# Altium integrated library Library.IntLib: 629 symbols (part 1 of 21)
Pins are listed as number, name and electrical type; pins without a type are passive.

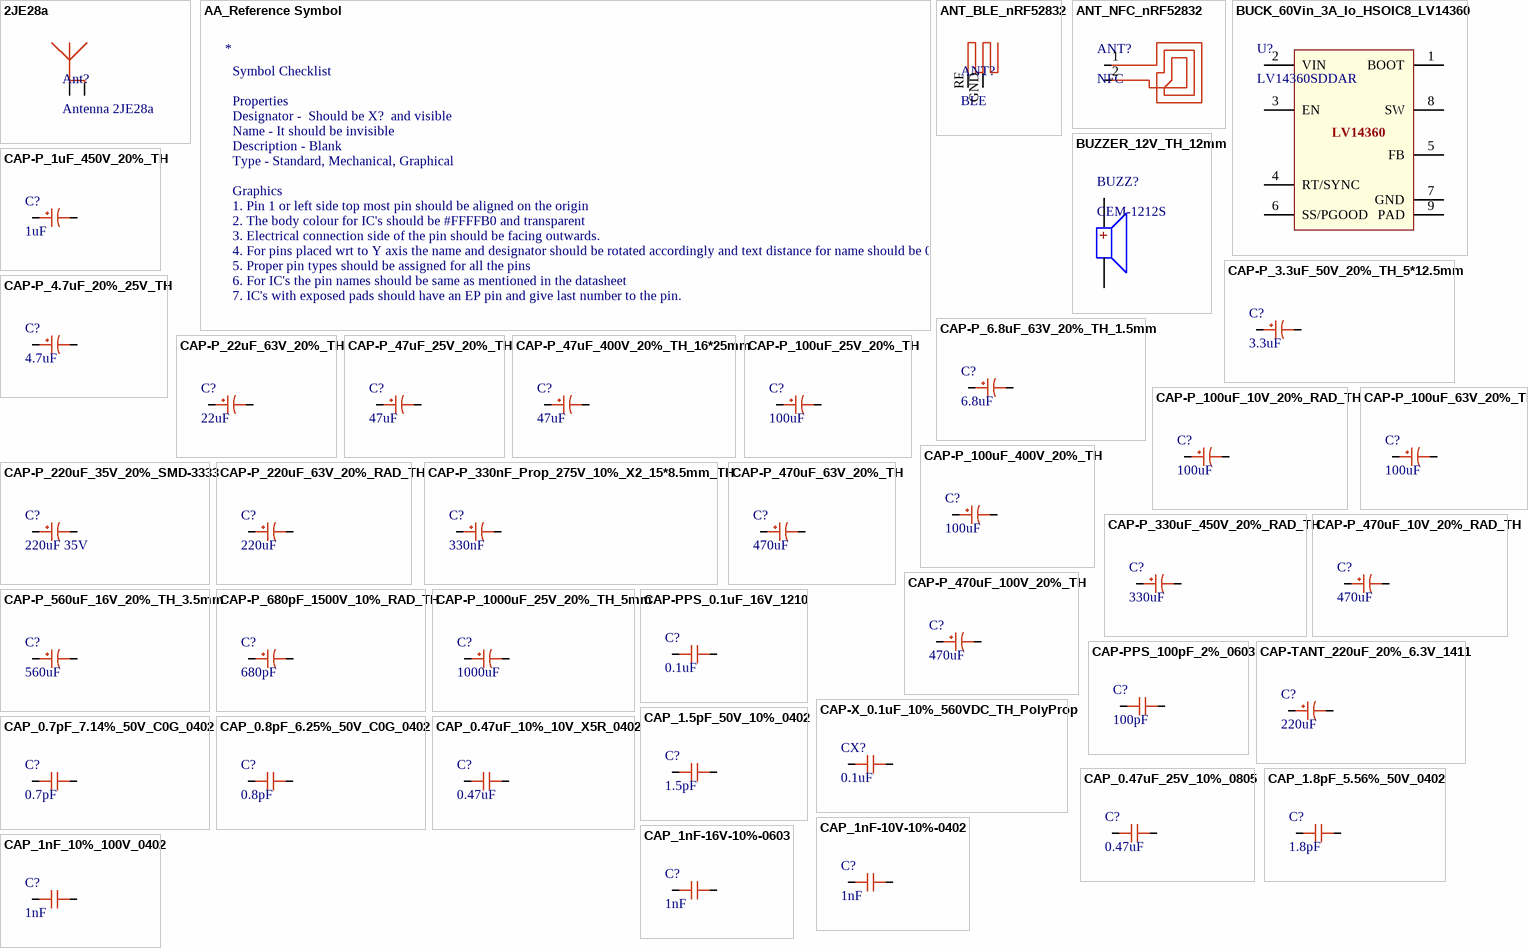
[diagram p0: symbols 2JE28a to CAP_1nF_10%_100V_0402]

## 2JE28a
designator Ant?, comment Antenna 2JE28a
CELLULAR / LTE Surface Mount Fiberglass Antenna 40x8x3mm; ComponentLink1Description: New link; ComponentLink1URL: https://www.2j-antennas.com/antennas/single-internal-antennas/2je28a-4g-lte-3g-2g-high-performance-compact-size-fiberglass-antenna/541
footprint 2JE28a (4G Surface Mount Antenna 40x8x3mm)
pins: 1, 2

## AA_Reference Symbol
designator *, comment Reference Symbol  (value not drawn)  (graphical)
Reference Checklist for Creating New Symbols
text: Symbol Checklist; Properties; Designator -  Should be X?  and visible; Name - It should be invisible; Description - Blank; Type - Standard, Mechanical, Graphical; Graphics; 1. Pin 1 or left side top most pin should be aligned on the origin; 2. The body colour for IC's should be #FFFFB0 and transparent; 3. Electrical connection side of the pin should be facing outwards.; 4. For pins placed wrt to Y axis the name and designator should be rotated accordingly and text distance for name should be 0mm; 5. Proper pin types should be assigned for all the pins; 6. For IC's the pin names should be same as mentioned in the datasheet; 7. IC's with exposed pads should have an EP pin and give last number to the pin.

## ANT_BLE_nRF52832
designator ANT?, comment BLE  (net tie, no BOM)
footprint ANT_BLE_2.4GHz
pins: GND, RF

## ANT_NFC_nRF52832
designator ANT?, comment NFC  (net tie, no BOM)
footprint AANI-CH-0030
pins: 1 22, 2 23

## BUCK_60Vin_3A_Io_HSOIC8_LV14360
designator U?, comment LV14360SDDAR
4.3-V to 60-V, 3-A, step down converter with 300-µA standby IQ and +/-0.53% Vref accuracy 8-SO PowerPAD -40 to 150; Manufacturer: Texas Instruments; Supplier: Mouser; Supplier Part Number: 595-LV14360SDDAR; Manufacturer Part Number: LV14360SDDAR; RoHS: Yes; Category: Voltage Regulators - Switching; Stock: 4336; Pricing: 1=2.94, 10=2.64, 50=2.64, 100=2.16, 1000=1.55, 10000=1.42 (USD); Supplier 1: Mouser; Supplier Part Number 1: 595-LV14360SDDAR; Supplier 2: Digikey; Supplier Part Number 2: 296-LV14360SDDARTR-ND
pins: 1 BOOT, 2 VIN, 3 EN, 4 RT/SYNC, 5 FB, 6 SS/PGOOD, 7 GND, 8 SW, 9 PAD
text: LV14360

## BUZZER_12V_TH_12mm
designator BUZZ?, comment CEM-1212S
12 mm, 12 V, 85 dB, Through Hole, Sealed, Magnetic Audio Transducer Buzzer; Manufacturer: Same Sky; Supplier: Digikey; Supplier Part Number: 102-1156-ND; Manufacturer Part Number: CEM-1212S; RoHS: No; Stock: 46451; Pricing: 1=0.75, 10=0.612, 25=0.5644, 50=0.5306, 100=0.4988, 250=0.45984, 500=0.43248, 1000=0.43125 (USD); ComponentLink1URL: https://www.cuidevices.com/product/resource/digikeypdf/cem-1212s.pdf?src-supplier=Digikey; ComponentLink1Description: https://www.cuidevices.com/product/resource/digikeypdf/cem-1212s.pdf?src-supplier=Digikey; ComponentLink2URL: https://datasheet.octopart.com/CEM-1212S-CUI-datasheet-154327548.pdf?src-supplier=Jameco; ComponentLink2Description: https://datasheet.octopart.com/CEM-1212S-CUI-datasheet-154327548.pdf?src-supplier=Jameco; ComponentLink3URL: https://datasheet.octopart.com/CEM-1212S-Same-Sky-datasheet-182048666.pdf?src-supplier=Future+Electronics; ComponentLink3Description: https://datasheet.octopart.com/CEM-1212S-Same-Sky-datasheet-182048666.pdf?src-supplier=Future+Electronics; ComponentLink4URL: https://datasheet.octopart.com/CEM-1212S-CUI-Devices-datasheet-175926679.pdf?src-supplier=Future+Electronics; ComponentLink4Description: https://datasheet.octopart.com/CEM-1212S-CUI-Devices-datasheet-175926679.pdf?src-supplier=Future+Electronics; ComponentLink5URL: https://datasheet.octopart.com/CEM-1212S-CUI-Devices-datasheet-103104170.pdf?src-supplier=Electro+Sonic; ComponentLink5Description: https://datasheet.octopart.com/CEM-1212S-CUI-Devices-datasheet-103104170.pdf?src-supplier=Electro+Sonic; ComponentLink6URL: https://datasheet.octopart.com/CEM-1212S-CUI-Devices-datasheet-175925308.pdf?src-supplier=Master+Electronics; ComponentLink6Description: https://datasheet.octopart.com/CEM-1212S-CUI-Devices-datasheet-175925308.pdf?src-supplier=Master+Electronics
footprint BUZZER_12mm_TH
pins: 1 +, 2 +

## CAP-P_1uF_450V_20%_TH
designator C?, comment 1uF
Aluminum Electrolytic Capacitor, Polarized, Aluminum (wet), 450V, 20% +Tol, 20% -Tol, 1uF, Through Hole Mount; Manufacturer: Rubycon; Manufacturer Part Number: 450PK1MEFC6.3X11; Dielectric Material: Aluminium; Ripple Current: 16mA; Supplier: Digikey; Supplier Part Number: 1189-1369-ND; RoHS: Yes; Category: Aluminum Electrolytic Capacitors; Stock: 23807; Pricing: 1=0.27, 10=0.166, 50=0.1208, 100=0.1063, 500=0.0811, 2000=0.06645, 4000=0.0609, 6000=0.05809 (USD); Pins: 2; Min Operating Temperature: -25°C; Max Operating Temperature: 85°C; Polarity: Polarized; Value: 1uF; Capacitor Type: Aluminium; Tolerance  (fill in as +-): 20%; Package Style: RadialMeter; Packaging: Bulk; Tolerance (fill in as +-): 20%; Rated DC Voltage (URdc): 450V; Series: PK; Diameter: 6.3mm; Length: 11mm; Terminal Pitch: 2.5mm; Reach SVHC Compliant: Yes; RoHS Compliant: Yes; ComponentLink1URL: https://datasheet.ciiva.com:443/pdfs/VipMasterIC/IC/RUBY/RUBYS00825/RUBYS00825-1.pdf?src-supplier=IHS+Markit; ComponentLink1Description: https://datasheet.ciiva.com:443/pdfs/VipMasterIC/IC/RUBY/RUBYS00825/RUBYS00825-1.pdf?src-supplier=IHS+Markit; ComponentLink2URL: https://datasheet.ciiva.com/25614/0900766b810f8819-25614364.pdf?src-supplier=Rs; ComponentLink2Description: https://datasheet.ciiva.com/25614/0900766b810f8819-25614364.pdf?src-supplier=Rs
pins: 1, 2

## CAP-P_3.3uF_50V_20%_TH_5*12.5mm
designator C?, comment 3.3uF
Aluminum Electrolytic Capacitor, Aluminum (wet); Manufacturer: Wurth Electronics; Manufacturer Part Number: 860020672007; Dielectric Material: Aluminium; Supplier: Farnell; Supplier Part Number: 4256997; RoHS: Yes; Category: Aluminum Electrolytic Capacitors; Stock: 1195; Pricing: 5=0.104, 50=0.0778, 250=0.0681, 500=0.0605, 1000=0.0573, 2000=0.0562 (EUR); Pins: 2; Capacitor Type: Aluminium; Reach SVHC Compliant: Yes; RoHS Compliant: Yes; ComponentLink1URL: https://datasheet.ciiva.com:443/pdfs/VipMasterIC/IC/MIDC/MIDC-S-A0000766074/MIDC-S-A0000766114-1.pdf?src-supplier=IHS+Markit; ComponentLink1Description: https://datasheet.ciiva.com:443/pdfs/VipMasterIC/IC/MIDC/MIDC-S-A0000766074/MIDC-S-A0000766114-1.pdf?src-supplier=IHS+Markit; ComponentLink2URL: http://www.farnell.com/datasheets/1879649.pdf?src-supplier=Farnell; ComponentLink2Description: http://www.farnell.com/datasheets/1879649.pdf?src-supplier=Farnell; ComponentLink3URL: http://katalog.we-online.de/pbs/datasheet/860020672007.pdf?src-supplier=Digikey; ComponentLink3Description: http://katalog.we-online.de/pbs/datasheet/860020672007.pdf?src-supplier=Digikey; ComponentLink4URL: http://www.farnell.com/datasheets/1879649.pdf?src-supplier=Element14; ComponentLink4Description: http://www.farnell.com/datasheets/1879649.pdf?src-supplier=Element14
footprint CAP_TH_2mm_H_5mm*12.5mm
pins: 1, 2

## CAP-P_4.7uF_20%_25V_TH
designator C?, comment 4.7uF
WCAP-ATG5 Aluminum Electrolytic Capacitors; Manufacturer: Wurth Electronics; Manufacturer Part Number: 860020472001; Supplier 1: Digi-Key; RoHS: Yes; Category: Aluminum Electrolytic Capacitors; Stock 1: 4025; Pricing 1: 1=0.1, 50=0.089, 100=0.078, 250=0.069, 500=0.06, 1000=0.058 (USD); ComponentLink1URL: http://www.farnell.com/datasheets/1958378.pdf?src-supplier=Farnell; ComponentLink1Description: http://www.farnell.com/datasheets/1958378.pdf?src-supplier=Farnell; ComponentLink2URL: http://www.farnell.com/datasheets/1958378.pdf?src-supplier=Element14; ComponentLink2Description: http://www.farnell.com/datasheets/1958378.pdf?src-supplier=Element14; ComponentLink3URL: http://katalog.we-online.de/pbs/datasheet/860020472001.pdf?src-supplier=Digi-Key; ComponentLink3Description: http://katalog.we-online.de/pbs/datasheet/860020472001.pdf?src-supplier=Digi-Key; ComponentLink4URL: https://katalog.we-online.de/pbs/datasheet/860020472001.pdf?src-supplier=Digi-Key; ComponentLink4Description: https://katalog.we-online.de/pbs/datasheet/860020472001.pdf?src-supplier=Digi-Key; Supplier Part Number 1: 732-8818-1-ND
footprint CAP_TH_2mm_1mm_hole
pins: 1, 2

## CAP-P_6.8uF_63V_20%_TH_1.5mm
designator C?, comment 6.8uF
Aluminum Electrolytic Capacitor, Polarized, Aluminum (wet), 63V, 20% +Tol, 20% -Tol, 6.8uF, Through Hole Mount; Manufacturer: Nichicon; Manufacturer Part Number: UPW1J6R8MDD6; Dielectric Material: Aluminium; Leakage Current: 12.852uA; Ripple Current: 24mA; Tan Delta: 0.09; Supplier: Newark; Supplier Part Number: 55K0315; RoHS: Yes; Category: Aluminum Electrolytic Capacitors; Mounting Technology: Through Hole; Pins: 2; Package Shape: Cylindrical; Terminal Finish: Copper; Min Operating Temperature: -55°C; Max Operating Temperature: 105°C; JESD-609 Code: e3; Polarity: Polarized; Value: 6.8uF; Capacitor Type: Aluminium; Tolerance  (fill in as +-): 20%; Package Style: RadialMeter; Packaging: Tape and Reel; Tolerance (fill in as +-): 20%; Rated DC Voltage (URdc): 63V; Termination: Wire; Diameter: 4mm; Length: 11mm; Terminal Pitch: 1.5mm; Reach SVHC Compliant: Yes; RoHS Compliant: Yes; ComponentLink1URL: https://datasheet.ciiva.com:443/pdfs/VipMasterIC/IC/NICH/NICH-S-A0009103853/NICH-S-A0009103853-1.pdf?src-supplier=IHS+Markit; ComponentLink1Description: https://datasheet.ciiva.com:443/pdfs/VipMasterIC/IC/NICH/NICH-S-A0009103853/NICH-S-A0009103853-1.pdf?src-supplier=IHS+Markit; ComponentLink2URL: https://datasheet.ciiva.com/14586/70187276-14586603.pdf?src-supplier=Allied+Electronics; ComponentLink2Description: https://datasheet.ciiva.com/14586/70187276-14586603.pdf?src-supplier=Allied+Electronics; ComponentLink3URL: https://datasheet.ciiva.com/97/e-pw-97625.pdf?src-supplier=Digikey; ComponentLink3Description: https://datasheet.ciiva.com/97/e-pw-97625.pdf?src-supplier=Digikey
pins: 1, 2

## CAP-P_22uF_63V_20%_TH
designator C?, comment 22uF
Alum. Electrolytic Cap 22µF 63V 6.3mm Radial WCAP-ATG8; Lifetime 2000h +85°C; Manufacturer: Wurth Electronics; Manufacturer Part Number: 860010773010; Supplier 1: Digi-Key; RoHS: Yes; Category: Aluminum Electrolytic Capacitors; Stock 1: 6207; Pricing 1: 1=0.14, 50=0.118, 100=0.103, 250=0.092, 500=0.08 (USD); ComponentLink1URL: http://www.farnell.com/datasheets/1879609.pdf?src-supplier=Farnell; ComponentLink1Description: http://www.farnell.com/datasheets/1879609.pdf?src-supplier=Farnell; ComponentLink2URL: http://www.farnell.com/datasheets/1879609.pdf?src-supplier=Element14; ComponentLink2Description: http://www.farnell.com/datasheets/1879609.pdf?src-supplier=Element14; ComponentLink3URL: http://katalog.we-online.de/pbs/datasheet/860010773010.pdf?src-supplier=Digi-Key; ComponentLink3Description: http://katalog.we-online.de/pbs/datasheet/860010773010.pdf?src-supplier=Digi-Key; ComponentLink4URL: https://katalog.we-online.de/pbs/datasheet/860010773010.pdf?src-supplier=Digi-Key; ComponentLink4Description: https://katalog.we-online.de/pbs/datasheet/860010773010.pdf?src-supplier=Digi-Key; Supplier Part Number 1: 732-8767-1-ND
footprint CAP_TH_2.5mm_1mm_hole
pins: 1, 2

## CAP-P_47uF_25V_20%_TH
designator C?, comment 47uF
WCAP-ATG5 Aluminum Electrolytic Capacitors; Manufacturer: Wurth Electronics; Manufacturer Part Number: 860020472006; Leakage Current: 11.75uA; Voltage Rating (DC): 25V; Pitch: 2mm; Supplier 1: Digi-Key; RoHS: Yes; Category: Aluminum Electrolytic Capacitors; Stock 1: 11188; Pricing 1: 1=0.1, 50=0.089, 100=0.078, 250=0.069, 500=0.06, 1000=0.058 (USD); Diameter: 5mm; Length: 11mm; Height: 11mm; ComponentLink1URL: http://www.farnell.com/datasheets/2031468.pdf?src-supplier=Farnell; ComponentLink1Description: http://www.farnell.com/datasheets/2031468.pdf?src-supplier=Farnell; ComponentLink2URL: http://katalog.we-online.de/pbs/datasheet/860020472006.pdf?src-supplier=Digi-Key; ComponentLink2Description: http://katalog.we-online.de/pbs/datasheet/860020472006.pdf?src-supplier=Digi-Key; ComponentLink3URL: https://katalog.we-online.de/pbs/datasheet/860020472006.pdf?src-supplier=Digi-Key; ComponentLink3Description: https://katalog.we-online.de/pbs/datasheet/860020472006.pdf?src-supplier=Digi-Key; ComponentLink4URL: http://www.farnell.com/datasheets/2031468.pdf?src-supplier=Newark; ComponentLink4Description: http://www.farnell.com/datasheets/2031468.pdf?src-supplier=Newark; Supplier Part Number 1: 732-8823-1-ND
footprint CAP_TH_2mm_1mm_hole
pins: 1, 2

## CAP-P_47uF_400V_20%_TH_16*25mm
designator C?, comment 47uF
Aluminum Electrolytic Capacitor, Polarized, Aluminum (wet), 400V, 20% +Tol, 20% -Tol, 47uF, Through Hole Mount; Manufacturer: Nichicon; Manufacturer Part Number: UVK2G470MHD; Dielectric Material: Aluminium; Ripple Current: 280mA; Leakage Current: 852uA; Tan Delta: 0.25; Supplier: Arrow Electronics; Supplier Part Number: UVK2G470MHD; RoHS: Yes; Category: Aluminum Electrolytic Capacitors; Stock: 200; Pricing: 200=0.7361 (USD); Mounting Technology: Through Hole; Pins: 2; Package Shape: Cylindrical; Terminal Finish: Copper; Min Operating Temperature: -40°C; Max Operating Temperature: 85°C; Polarity: Polarized; Value: 47uF; Capacitor Type: Aluminium; Tolerance  (fill in as +-): 20%; Package Style: RadialMeter; Packaging: Bulk; Tolerance (fill in as +-): 20%; Rated DC Voltage (URdc): 400V; JESD-609 Code: e3; Termination: Wire; Diameter: 16mm; Length: 25mm; Terminal Pitch: 7.5mm; Reach SVHC Compliant: No; RoHS Compliant: Yes; ComponentLink1URL: https://datasheet.ciiva.com:443/pdfs/VipMasterIC/IC/NICH/NICH-S-A0003527755/NICH-S-A0003527755-1.pdf?src-supplier=IHS+Markit; ComponentLink1Description: https://datasheet.ciiva.com:443/pdfs/VipMasterIC/IC/NICH/NICH-S-A0003527755/NICH-S-A0003527755-1.pdf?src-supplier=IHS+Markit; ComponentLink2URL: https://datasheet.ciiva.com/104/e-vk-104456.pdf?src-supplier=Digikey; ComponentLink2Description: https://datasheet.ciiva.com/104/e-vk-104456.pdf?src-supplier=Digikey; ComponentLink3URL: https://datasheet.ciiva.com/11685/e-vk-11685991.pdf?src-supplier=Avnet; ComponentLink3Description: https://datasheet.ciiva.com/11685/e-vk-11685991.pdf?src-supplier=Avnet; ComponentLink4URL: https://datasheet.ciiva.com/5341/e-vk-16658-5341081.pdf?src-supplier=Mouser; ComponentLink4Description: https://datasheet.ciiva.com/5341/e-vk-16658-5341081.pdf?src-supplier=Mouser
footprint CAP_TH_7.5mm_H_16mm*25mm
pins: 1, 2

## CAP-P_100uF_10V_20%_RAD_TH
designator C?, comment 100uF
100 µF 10 V Aluminum Electrolytic Capacitors Radial, Can 2000 Hrs @ 85°C; Manufacturer: Wurth Electronics; Manufacturer Part Number: 860010272005; Dielectric Material: Aluminium; Supplier: Digi-Key; Supplier Part Number: 732-8702-1-ND; RoHS: Yes; Category: Aluminum Electrolytic Capacitors; Stock: 1584; Pricing: 1=0.12, 50=0.1, 100=0.088, 250=0.078, 500=0.068, 1000=0.064 (USD); Pins: 2; Capacitor Type: Aluminium; Reach SVHC Compliant: Yes; RoHS Compliant: Yes; ComponentLink1URL: https://datasheet.ciiva.com:443/pdfs/VipMasterIC/IC/MIDC/MIDC-S-A0000764616/MIDC-S-A0000764141-1.pdf?src-supplier=IHS+Markit; ComponentLink1Description: https://datasheet.ciiva.com:443/pdfs/VipMasterIC/IC/MIDC/MIDC-S-A0000764616/MIDC-S-A0000764141-1.pdf?src-supplier=IHS+Markit; ComponentLink2URL: http://www.farnell.com/datasheets/1879452.pdf?src-supplier=Farnell; ComponentLink2Description: http://www.farnell.com/datasheets/1879452.pdf?src-supplier=Farnell; ComponentLink3URL: http://www.farnell.com/datasheets/1879452.pdf?src-supplier=Element14; ComponentLink3Description: http://www.farnell.com/datasheets/1879452.pdf?src-supplier=Element14; ComponentLink4URL: http://katalog.we-online.de/pbs/datasheet/860010272005.pdf?src-supplier=Digi-Key; ComponentLink4Description: http://katalog.we-online.de/pbs/datasheet/860010272005.pdf?src-supplier=Digi-Key; Supplier 1: Digi-Key; Supplier Part Number 1: 732-8702-1-ND
footprint CAP_TH_2mm_1mm_hole
pins: 1, 2

## CAP-P_100uF_25V_20%_TH
designator C?, comment 100uF
Alum. Electrolytic Cap 100µF 25V 6.3mm Radial WCAP-ATUL; Lifetime 5000h +105°C; Manufacturer: Wurth Electronics; Manufacturer Part Number: 860040473003; Supplier 1: Digi-Key; RoHS: Yes; Category: Aluminum Electrolytic Capacitors; Stock 1: 14595; Pricing 1: 1=0.18, 50=0.151, 100=0.132, 250=0.117, 500=0.102 (USD); ComponentLink1URL: http://www.farnell.com/datasheets/1958392.pdf?src-supplier=Farnell; ComponentLink1Description: http://www.farnell.com/datasheets/1958392.pdf?src-supplier=Farnell; ComponentLink2URL: http://www.produktinfo.conrad.com/datenblaetter/1200000-1299999/001281109-da-01-en-WCAP_ATUL_ALU_ELEC_CAPS_860040473003.pdf?src-supplier=Conrad; ComponentLink2Description: http://www.produktinfo.conrad.com/datenblaetter/1200000-1299999/001281109-da-01-en-WCAP_ATUL_ALU_ELEC_CAPS_860040473003.pdf?src-supplier=Conrad; ComponentLink3URL: http://katalog.we-online.de/pbs/datasheet/860040473003.pdf?src-supplier=Digi-Key; ComponentLink3Description: http://katalog.we-online.de/pbs/datasheet/860040473003.pdf?src-supplier=Digi-Key; ComponentLink4URL: https://katalog.we-online.de/pbs/datasheet/860040473003.pdf?src-supplier=Digi-Key; ComponentLink4Description: https://katalog.we-online.de/pbs/datasheet/860040473003.pdf?src-supplier=Digi-Key; ComponentLink5URL: http://www.farnell.com/datasheets/1958392.pdf?src-supplier=Element14; ComponentLink5Description: http://www.farnell.com/datasheets/1958392.pdf?src-supplier=Element14; Supplier Part Number 1: 732-9170-1-ND
footprint CAP_TH_2.5mm_1mm_hole
pins: 1, 2

## CAP-P_100uF_63V_20%_TH
designator C?, comment 100uF
Alum. Electrolytic Cap 100µF 63V 10mm Radial WCAP-ATG5; Lifetime 2000h +105°C; Manufacturer: Wurth Electronics; Manufacturer Part Number: 860020775015; Supplier 1: Digi-Key; RoHS: Yes; Category: Aluminum Electrolytic Capacitors; Stock 1: 2413; Pricing 1: 1=0.4, 50=0.344, 100=0.3, 250=0.267 (USD); ComponentLink1URL: http://www.farnell.com/datasheets/1879689.pdf?src-supplier=Farnell; ComponentLink1Description: http://www.farnell.com/datasheets/1879689.pdf?src-supplier=Farnell; ComponentLink2URL: http://www.produktinfo.conrad.com/datenblaetter/1200000-1299999/001280815-da-01-en-WCAP_ATG5_ALU_ELEC_CAPS_860020775015.pdf?src-supplier=Conrad; ComponentLink2Description: http://www.produktinfo.conrad.com/datenblaetter/1200000-1299999/001280815-da-01-en-WCAP_ATG5_ALU_ELEC_CAPS_860020775015.pdf?src-supplier=Conrad; ComponentLink3URL: http://katalog.we-online.de/pbs/datasheet/860020775015.pdf?src-supplier=Digi-Key; ComponentLink3Description: http://katalog.we-online.de/pbs/datasheet/860020775015.pdf?src-supplier=Digi-Key; ComponentLink4URL: https://katalog.we-online.de/pbs/datasheet/860020775015.pdf?src-supplier=Digi-Key; ComponentLink4Description: https://katalog.we-online.de/pbs/datasheet/860020775015.pdf?src-supplier=Digi-Key; ComponentLink5URL: http://www.farnell.com/datasheets/1879689.pdf?src-supplier=Element14; ComponentLink5Description: http://www.farnell.com/datasheets/1879689.pdf?src-supplier=Element14; Supplier Part Number 1: 732-8976-1-ND
footprint CAP_TH_5mm_1mm_hole
pins: 1, 2

## CAP-P_100uF_400V_20%_TH
designator C?, comment 100uF
Aluminum Electrolytic Capacitor, Polarized, Aluminum (wet), 400V, 20% +Tol, 20% -Tol, 100uF, Through Hole Mount; Manufacturer: United Chemi-Con; Manufacturer Part Number: EPAG401ELL101ML30S; Manufacturer Series: PAG; Dielectric Material: Aluminium; Leakage Current: 1.7mA; Ripple Current: 580mA; Tan Delta: 0.15; Supplier: Digikey; Supplier Part Number: 565-4246-ND; RoHS: Yes; Category: Aluminum Electrolytic Capacitors; Stock: 809; Pricing: 1=2.35, 10=1.55, 50=1.2184, 100=1.1138, 500=0.93372, 1000=0.87705, 2500=0.81662, 5000=0.77981, 10000=0.76076 (USD); Mounting Technology: Through Hole; Pins: 2; Package Shape: Cylindrical; Terminal Finish: Tin; Min Operating Temperature: -40°C; Max Operating Temperature: 105°C; JESD-609 Code: e3; Polarity: Polarized; Value: 100uF; Capacitor Type: Aluminium; Tolerance  (fill in as +-): 20%; Package Style: RadialMeter; Packaging: Bulk; Tolerance (fill in as +-): 20%; Rated DC Voltage (URdc): 400V; Series: PAG; Termination: Wire; Diameter: 16mm; Length: 30mm; Terminal Pitch: 7.5mm; Reach SVHC Compliant: Yes; RoHS Compliant: Yes; ComponentLink1URL: https://datasheet.ciiva.com:443/pdfs/VipMasterIC/IC/NIPC/NIPCS02498/NIPCS02498-1.pdf?src-supplier=IHS+Markit; ComponentLink1Description: https://datasheet.ciiva.com:443/pdfs/VipMasterIC/IC/NIPC/NIPCS02498/NIPCS02498-1.pdf?src-supplier=IHS+Markit; ComponentLink2URL: http://www.onlinecomponents.com/datasheet/epag401ell101ml30s.aspx?p=39080103&src-supplier=Onlinecomponents.com; ComponentLink2Description: http://www.onlinecomponents.com/datasheet/epag401ell101ml30s.aspx?p=39080103&src-supplier=Onlinecomponents.com; ComponentLink3URL: http://www.mouser.com/ds/2/420/al-pag-e-140701-514742.pdf?src-supplier=Mouser; ComponentLink3Description: http://www.mouser.com/ds/2/420/al-pag-e-140701-514742.pdf?src-supplier=Mouser; ComponentLink4URL: http://www.chemi-con.com/components/com_lcatalog/uploaded/5/6/4/16402269505171a450c9b97.pdf?src-supplier=Digikey; ComponentLink4Description: http://www.chemi-con.com/components/com_lcatalog/uploaded/5/6/4/16402269505171a450c9b97.pdf?src-supplier=Digikey; ComponentLink5URL: http://www.chemi-con.co.jp/cgi-bin/CAT_DB/SEARCH/cat_db_al.cgi?e=e&j=p&pdfname=pag&src-supplier=Digikey; ComponentLink5Description: http://www.chemi-con.co.jp/cgi-bin/CAT_DB/SEARCH/cat_db_al.cgi?e=e&j=p&pdfname=pag&src-supplier=Digikey; ComponentLink6URL: https://datasheet.octopart.com/EPAG401ELL101ML30S-United-Chemi-Con-datasheet-58829309.pdf?src-supplier=Future+Electronics; ComponentLink6Description: https://datasheet.octopart.com/EPAG401ELL101ML30S-United-Chemi-Con-datasheet-58829309.pdf?src-supplier=Future+Electronics; ComponentLink7URL: https://datasheet.octopart.com/EPAG401ELL101ML30S-United-Chemi-Con-datasheet-138241091.pdf?src-supplier=Master+Electronics; ComponentLink7Description: https://datasheet.octopart.com/EPAG401ELL101ML30S-United-Chemi-Con-datasheet-138241091.pdf?src-supplier=Master+Electronics
pins: 1, 2

## CAP-P_220uF_35V_20%_SMD-3333
designator C?, comment 220uF 35V
Aluminum Electrolytic Capacitor, Polarized, Aluminum (wet), 35V, 20% +Tol, 20% -Tol, 220uF, Surface Mount, 3333; Manufacturer: KEMET; Manufacturer Part Number: EEV227M035S9MAA; Capacitor Type: Aluminium; Supplier: Mouser; Supplier Part Number: 80-EEV227M035S9MAA; RoHS: Yes; Category: Aluminum Electrolytic Capacitors; Stock: 6171; Pricing: 1=0.64, 10=0.377, 50=0.377, 100=0.307, 1000=0.215, 10000=0.191 (USD); Pins: 2; RoHS Compliant: Yes; Reach SVHC Compliant: Yes; ComponentLink1URL: https://api.kemet.com/component-edge/download/datasheet/EEV227M035S9MAA.pdf?src-supplier=Digikey; ComponentLink1Description: https://api.kemet.com/component-edge/download/datasheet/EEV227M035S9MAA.pdf?src-supplier=Digikey
footprint CAP-RAD-SMD - 8mm
pins: 1, 2

## CAP-P_220uF_63V_20%_RAD_TH
designator C?, comment 220uF
Aluminum Electrolytic Capacitor, Aluminum (wet); Manufacturer: Wurth Electronics; Manufacturer Part Number: 860010775018; Dielectric Material: Aluminium; Supplier: Mouser; Supplier Part Number: 710-860010775018; RoHS: Yes; Category: Aluminum Electrolytic Capacitors; Stock: 1178; Pricing: 1=0.65, 10=0.646, 50=0.551, 100=0.481, 1000=0.372, 10000=0.356 (USD); Pins: 2; Capacitor Type: Aluminium; Reach SVHC Compliant: Yes; RoHS Compliant: Yes; ComponentLink1URL: https://datasheet.ciiva.com:443/pdfs/VipMasterIC/IC/MIDC/MIDC-S-A0000765238/MIDC-S-A0000765824-1.pdf?src-supplier=IHS+Markit; ComponentLink1Description: https://datasheet.ciiva.com:443/pdfs/VipMasterIC/IC/MIDC/MIDC-S-A0000765238/MIDC-S-A0000765824-1.pdf?src-supplier=IHS+Markit; ComponentLink2URL: http://www.farnell.com/datasheets/1879617.pdf?src-supplier=Farnell; ComponentLink2Description: http://www.farnell.com/datasheets/1879617.pdf?src-supplier=Farnell; ComponentLink3URL: http://katalog.we-online.de/pbs/datasheet/860010775018.pdf?src-supplier=Digikey; ComponentLink3Description: http://katalog.we-online.de/pbs/datasheet/860010775018.pdf?src-supplier=Digikey; ComponentLink4URL: https://katalog.we-online.de/pbs/datasheet/860010775018.pdf?src-supplier=Digikey; ComponentLink4Description: https://katalog.we-online.de/pbs/datasheet/860010775018.pdf?src-supplier=Digikey; ComponentLink5URL: http://www.farnell.com/datasheets/1879617.pdf?src-supplier=Element14; ComponentLink5Description: http://www.farnell.com/datasheets/1879617.pdf?src-supplier=Element14
footprint CAP_TH_5mm_1mm_hole
pins: 1, 2

## CAP-P_330nF_Prop_275V_10%_X2_15*8.5mm_TH
designator C?, comment 330nF
330 nF, ±10%, 275 VAC, Polypropylene Film, / X2, 15.00 mm x 8.50 mm; Manufacturer: Wurth Electronics; Manufacturer Part Number: 890324024003CS; Supplier: Farnell; Supplier Part Number: 2450007; RoHS: Yes; Category: Film Capacitors; Stock: 188; Pricing: 1=0.606, 50=0.462, 100=0.41, 250=0.359, 500=0.325, 1200=0.299 (EUR); Pins: 2; Capacitor Type: FILM; Reach SVHC Compliant: Yes; RoHS Compliant: Yes; ComponentLink1URL: https://datasheet.ciiva.com:443/pdfs/VipMasterIC/IC/MIDC/MIDC-S-A0001528209/MIDC-S-A0001527941-1.pdf?src-supplier=IHS+Markit; ComponentLink1Description: https://datasheet.ciiva.com:443/pdfs/VipMasterIC/IC/MIDC/MIDC-S-A0001528209/MIDC-S-A0001527941-1.pdf?src-supplier=IHS+Markit; ComponentLink2URL: https://datasheet.ciiva.com/46418/1854504-46418822.pdf?src-supplier=Element14; ComponentLink2Description: https://datasheet.ciiva.com/46418/1854504-46418822.pdf?src-supplier=Element14
pins: 1, 2

## CAP-P_330uF_450V_20%_RAD_TH
designator C?, comment 330uF
Aluminum Electrolytic Capacitor, Polarized, Aluminum (wet), 450V, 20% +Tol, 20% -Tol, 330uF; Manufacturer: United Chemi-Con; Manufacturer Part Number: ESMR451VSN331MR30S; Manufacturer Series: SMR; Dielectric Material: Aluminium; Ripple Current: 2.1A; Supplier: Digikey; Supplier Part Number: 565-4516-ND; RoHS: Yes; Category: Aluminum Electrolytic Capacitors; Stock: 1439; Pricing: 1=4.82, 10=4.148, 50=3.7618, 200=3.10585, 600=2.70073, 1000=2.50783, 2600=2.4596 (USD); Pins: 2; Terminal Finish: Tin; Min Operating Temperature: -25°C; Max Operating Temperature: 85°C; JESD-609 Code: e3; Polarity: Polarized; Value: 330uF; Capacitor Type: Aluminium; Tolerance  (fill in as +-): 20%; Package Style: Snap-inMeter; Tolerance (fill in as +-): 20%; Rated DC Voltage (URdc): 450V; Series: SMR; Diameter: 30mm; Length: 30mm; Terminal Pitch: 10mm; Reach SVHC Compliant: Yes; RoHS Compliant: Yes; ComponentLink1URL: https://datasheet.ciiva.com:443/pdfs/VipMasterIC/IC/NIPC/NIPC-S-A0009038875/NIPC-S-A0009038875-1.pdf?src-supplier=IHS+Markit; ComponentLink1Description: https://datasheet.ciiva.com:443/pdfs/VipMasterIC/IC/NIPC/NIPC-S-A0009038875/NIPC-S-A0009038875-1.pdf?src-supplier=IHS+Markit; ComponentLink2URL: http://www.chemi-con.co.jp/cgi-bin/CAT_DB/SEARCH/cat_db_al.cgi?e=e&amp;j=p&amp;pdfname=smrlug&src-supplier=Digikey; ComponentLink2Description: http://www.chemi-con.co.jp/cgi-bin/CAT_DB/SEARCH/cat_db_al.cgi?e=e&amp;j=p&amp;pdfname=smrlug&src-supplier=Digikey
footprint CAP_RAD_SNAPIN_10mm_
pins: 1, 2

## CAP-P_470uF_10V_20%_RAD_TH
designator C?, comment 470uF
Aluminum Electrolytic Capacitor, Aluminum (wet); Manufacturer: Wurth Electronics; Manufacturer Part Number: 860010273011; Dielectric Material: Aluminium; Supplier: Digi-Key; Supplier Part Number: 732-8708-1-ND; RoHS: Yes; Category: Aluminum Electrolytic Capacitors; Stock: 4181; Pricing: 1=0.17, 50=0.144, 100=0.126, 250=0.112, 500=0.098 (USD); Pins: 2; Capacitor Type: Aluminium; Reach SVHC Compliant: Yes; RoHS Compliant: Yes; ComponentLink1URL: https://datasheet.ciiva.com:443/pdfs/VipMasterIC/IC/MIDC/MIDC-S-A0000764616/MIDC-S-A0000765065-1.pdf?src-supplier=IHS+Markit; ComponentLink1Description: https://datasheet.ciiva.com:443/pdfs/VipMasterIC/IC/MIDC/MIDC-S-A0000764616/MIDC-S-A0000765065-1.pdf?src-supplier=IHS+Markit; ComponentLink2URL: http://www.farnell.com/datasheets/1879458.pdf?src-supplier=Farnell; ComponentLink2Description: http://www.farnell.com/datasheets/1879458.pdf?src-supplier=Farnell; ComponentLink3URL: http://www.farnell.com/datasheets/1879458.pdf?src-supplier=Element14; ComponentLink3Description: http://www.farnell.com/datasheets/1879458.pdf?src-supplier=Element14; ComponentLink4URL: http://katalog.we-online.de/pbs/datasheet/860010273011.pdf?src-supplier=Digi-Key; ComponentLink4Description: http://katalog.we-online.de/pbs/datasheet/860010273011.pdf?src-supplier=Digi-Key; ComponentLink5URL: https://katalog.we-online.de/pbs/datasheet/860010273011.pdf?src-supplier=Digi-Key; ComponentLink5Description: https://katalog.we-online.de/pbs/datasheet/860010273011.pdf?src-supplier=Digi-Key; Supplier 1: Digi-Key; Supplier Part Number 1: 732-8708-1-ND
pins: 1, 2

## CAP-P_470uF_63V_20%_TH
designator C?, comment 470uF
Aluminium Electrolytic Capacitor, Wcap-Atg8 Series, 470 F, 20%, 63 V, 13 Mm, Radial Leaded; Manufacturer: Wurth Electronics; Manufacturer Part Number: 860010778020; Supplier 1: Digi-Key; RoHS: Yes; Category: Aluminum Electrolytic Capacitors; Stock 1: 294; Pricing 1: 1=1.19, 50=1.01, 100=0.881 (USD); ComponentLink1URL: http://www.farnell.com/datasheets/1879619.pdf?src-supplier=Farnell; ComponentLink1Description: http://www.farnell.com/datasheets/1879619.pdf?src-supplier=Farnell; ComponentLink2URL: http://www.farnell.com/datasheets/1879619.pdf?src-supplier=Element14; ComponentLink2Description: http://www.farnell.com/datasheets/1879619.pdf?src-supplier=Element14; ComponentLink3URL: http://katalog.we-online.de/pbs/datasheet/860010778020.pdf?src-supplier=Digi-Key; ComponentLink3Description: http://katalog.we-online.de/pbs/datasheet/860010778020.pdf?src-supplier=Digi-Key; Supplier Part Number 1: 732-8777-1-ND
footprint CAP_TH_5mm_1mm_hole - duplicate
pins: 1, 2

## CAP-P_470uF_100V_20%_TH
designator C?, comment 470uF
Aluminum Electrolytic Capacitor, Polarized, Aluminum (wet), 100V, 20% +Tol, 20% -Tol, 470uF, Through Hole Mount; Manufacturer: Rubycon; Manufacturer Part Number: 100ZLH470MEFC16X31.5; Manufacturer Series: ZLH; Dielectric Material: Aluminium; Leakage Current: 470uA; Multilayer: Yes; Ripple Current: 1.32A; Tan Delta: 0.08; Temperature Characteristics Code: BX; Supplier: Digikey; Supplier Part Number: 1189-1712-ND; RoHS: Yes; Category: Aluminum Electrolytic Capacitors; Stock: 53339; Pricing: 1=1.76, 10=1.165, 50=0.915, 400=0.7161, 800=0.70275 (USD); Mounting Technology: Through Hole; Pins: 2; Package Shape: Cylindrical; Case/Package: 1812; Terminal Finish: Tin; Min Operating Temperature: -40°C; Max Operating Temperature: 105°C; JESD-609 Code: e3; Polarity: Polarized; Value: 470uF; Capacitor Type: Aluminium; Tolerance  (fill in as +-): 20%; Package Style: RadialMeter; Packaging: Bulk; Tolerance (fill in as +-): 20%; Rated DC Voltage (URdc): 100V; Termination: Wire; Diameter: 16mm; Length: 31.5mm; Terminal Pitch: 7.5mm; Reach SVHC Compliant: Yes; RoHS Compliant: Yes; ComponentLink1URL: https://datasheet.ciiva.com:443/pdfs/VipMasterIC/IC/RUBY/RUBYS01692/RUBYS01692-1.pdf?src-supplier=IHS+Markit; ComponentLink1Description: https://datasheet.ciiva.com:443/pdfs/VipMasterIC/IC/RUBY/RUBYS01692/RUBYS01692-1.pdf?src-supplier=IHS+Markit; ComponentLink2URL: https://datasheet.ciiva.com/22732/1910927-22732325.pdf?src-supplier=Element14; ComponentLink2Description: https://datasheet.ciiva.com/22732/1910927-22732325.pdf?src-supplier=Element14; ComponentLink3URL: https://datasheet.ciiva.com/6312/e-zlh-6312573.pdf?src-supplier=Digikey; ComponentLink3Description: https://datasheet.ciiva.com/6312/e-zlh-6312573.pdf?src-supplier=Digikey
pins: 1, 2

## CAP-P_560uF_16V_20%_TH_3.5mm
designator C?, comment 560uF
Aluminum Electrolytic Capacitor, Polarized, Aluminum (solid Polymer), 16V, 20% +Tol, 20% -Tol, 560uF, Through Hole Mount; Manufacturer: United Chemi-Con; Manufacturer Part Number: APSG160ELL561MHB5J; Dielectric Material: Aluminium; ESR (Equivalent Series Resistance): 8mR; Leakage Current: 1.792mA; Multilayer: No; Ripple Current: 610mA; Tan Delta: 0.12; Supplier: Digikey; Supplier Part Number: 565-APSG160ELL561MHB5J-ND; RoHS: Yes; Category: Polymer Capacitors; Stock: 1946; Pricing: 1=1.4, 10=0.904, 50=0.6956, 100=0.6297, 500=0.51608, 1000=0.48031, 3000=0.4356, 5000=0.41889 (USD); Mounting Technology: Through Hole; Pins: 2; Min Operating Temperature: -55°C; Max Operating Temperature: 105°C; Polarity: Polarized; Value: 560uF; Capacitor Type: Aluminium; Tolerance  (fill in as +-): 20%; Package Style: RadialMeter; Packaging: Bulk; Tolerance (fill in as +-): 20%; Rated DC Voltage (URdc): 16V; Termination: Wire; Diameter: 8mm; Length: 11.5mm; Terminal Pitch: 3.5mm; RoHS Compliant: Yes; Reach SVHC Compliant: Yes; ComponentLink1URL: https://datasheet.ciiva.com:443/pdfs/VipMasterIC/IC/NIPC/NIPC-S-A0004676502/NIPC-S-A0004676502-1.pdf?src-supplier=IHS+Markit; ComponentLink1Description: https://datasheet.ciiva.com:443/pdfs/VipMasterIC/IC/NIPC/NIPC-S-A0004676502/NIPC-S-A0004676502-1.pdf?src-supplier=IHS+Markit; ComponentLink2URL: http://www.chemi-con.co.jp/cgi-bin/CAT_DB/SEARCH/cat_db_al.cgi?e=e&j=p&pdfname=psg&src-supplier=Digikey; ComponentLink2Description: http://www.chemi-con.co.jp/cgi-bin/CAT_DB/SEARCH/cat_db_al.cgi?e=e&j=p&pdfname=psg&src-supplier=Digikey
pins: 1, 2

## CAP-P_680pF_1500V_10%_RAD_TH
designator C?, comment 680pF
CAP CER 680PF 1.5KV RADIAL; Manufacturer: Murata; Manufacturer Part Number: DE1B3RA681KA4BP01F; Supplier: Mouser; Supplier Part Number: 81-DE1B3RA681KA4BP1F; RoHS: Yes; Category: Ceramic Capacitors; Stock: 1014; Pricing: 1=0.48, 10=0.314, 50=0.314, 100=0.155, 1000=0.139, 10000=0.112 (USD)
pins: 1, 2

## CAP-P_1000uF_25V_20%_TH_5mm
designator C?, comment 1000uF
Aluminum Electrolytic Capacitor, Polarized, Aluminum (wet), 25V, 20% +Tol, 20% -Tol, 1000uF; Manufacturer: Rubycon; Manufacturer Part Number: 25PX1000MEFCT810X16; Manufacturer Series: PX; Dielectric Material: Aluminium; Value: 1mF; Ripple Current: 740mA; Supplier: Digikey; Supplier Part Number: 1189-1583-1-ND; RoHS: Yes; Category: Aluminum Electrolytic Capacitors; Stock: 62862; Pricing: 1=0.66, 10=0.413, 50=0.3088, 100=0.2757 (USD); Pins: 2; Min Operating Temperature: -55°C; Max Operating Temperature: 105°C; Polarity: Polarized; Capacitor Type: Aluminium; Tolerance  (fill in as +-): 20%; Package Style: RadialMeter; Packaging: Tape and Reel; Tolerance (fill in as +-): 20%; Rated DC Voltage (URdc): 25V; Series: PX; Diameter: 10mm; Length: 16mm; Terminal Pitch: 5mm; Reach SVHC Compliant: Yes; RoHS Compliant: Yes; ComponentLink1URL: https://datasheet.ciiva.com:443/pdfs/VipMasterIC/IC/RUBY/RUBY-S-A0001237875/RUBY-S-A0001237875-1.pdf?src-supplier=IHS+Markit; ComponentLink1Description: https://datasheet.ciiva.com:443/pdfs/VipMasterIC/IC/RUBY/RUBY-S-A0001237875/RUBY-S-A0001237875-1.pdf?src-supplier=IHS+Markit; ComponentLink2URL: https://datasheet.ciiva.com/6298/e-px-6298646.pdf?src-supplier=Digikey; ComponentLink2Description: https://datasheet.ciiva.com/6298/e-px-6298646.pdf?src-supplier=Digikey; ComponentLink3URL: https://datasheet.ciiva.com/6298/e-px-6298647.pdf?src-supplier=Digikey; ComponentLink3Description: https://datasheet.ciiva.com/6298/e-px-6298647.pdf?src-supplier=Digikey; ComponentLink4URL: https://datasheet.ciiva.com/22732/1909360-22732535.pdf?src-supplier=Element14; ComponentLink4Description: https://datasheet.ciiva.com/22732/1909360-22732535.pdf?src-supplier=Element14
footprint CAP_TH_5mm_1mm_hole
pins: 1, 2

## CAP-PPS_0.1uF_16V_1210
designator C?, comment 0.1uF
Film Capacitor, Polyphenylene Sulfide, 16V, 2% +Tol, 2% -Tol, 0.1uF, Surface Mount, 1310; Manufacturer: Panasonic; Manufacturer Part Number: ECH-U1C104GX5; Value: 100nF; Supplier: Mouser; Supplier Part Number: 667-ECH-U1C104GX5; RoHS: Yes; Category: Film Capacitors; Stock: 21421; Pricing: 1=0.92, 10=0.51, 50=0.51, 100=0.456, 1000=0.338, 10000=0.294 (USD); Mounting Technology: Surface Mount; Pins: 2; Package Shape: Rectangular; Terminal Finish: Copper; Dielectric Material: Polyphenylene; Case/Package: 1210; Min Operating Temperature: -55°C; Max Operating Temperature: 125°C; JESD-609 Code: e1; Package Style: SMTMeter; Capacitor Type: FILM; Tolerance  (fill in as +-): 2%; Packaging: Tape and Reel; Tolerance (fill in as +-): 2%; Rated DC Voltage (URdc): 16V; Termination: Wraparound; Length: 3.2mm; Width: 2.5mm; Height: 2.1mm; Reach SVHC Compliant: Yes; RoHS Compliant: Yes; ComponentLink1URL: https://datasheet.ciiva.com:443/pdfs/VipMasterIC/IC/PANA/PANA-S-A0009590914/PANA-S-A0009590914-1.pdf?src-supplier=IHS+Markit; ComponentLink1Description: https://datasheet.ciiva.com:443/pdfs/VipMasterIC/IC/PANA/PANA-S-A0009590914/PANA-S-A0009590914-1.pdf?src-supplier=IHS+Markit
footprint CAP_1210
pins: 1, 2

## CAP-PPS_100pF_2%_0603
designator C?, comment 100pF
Film Capacitor, Polyphenylene Sulfide, 16V, 2% +Tol, 2% -Tol, 0.0001uF, Surface Mount, 0603; Manufacturer: Panasonic; Manufacturer Part Number: ECH-U1C101GX5; Supplier: Mouser; Supplier Part Number: 667-ECH-U1C101GX5; RoHS: Yes; Category: Film Capacitors; Stock: 9885; Pricing: 1=0.5, 10=0.238, 50=0.238, 100=0.172, 1000=0.158, 10000=0.134 (USD); Mounting Technology: Surface Mount; Pins: 2; Dielectric Material: Polyphenylene; Package Shape: Rectangular; Case/Package: 0603; Terminal Finish: Copper; Min Operating Temperature: -55°C; Max Operating Temperature: 125°C; JESD-609 Code: e1; Value: 100pF; Capacitor Type: FILM; Tolerance  (fill in as +-): 2%; Package Style: SMTMeter; Packaging: Tape and Reel; Tolerance (fill in as +-): 2%; Rated DC Voltage (URdc): 16V; Termination: Wraparound; Length: 1.6mm; Width: 0.8mm; Height: 0.7mm; Reach SVHC Compliant: Yes; RoHS Compliant: Yes; ComponentLink1URL: https://datasheet.ciiva.com:443/pdfs/VipMasterIC/IC/PANA/PANA-S-A0009590914/PANA-S-A0009590914-1.pdf?src-supplier=IHS+Markit; ComponentLink1Description: https://datasheet.ciiva.com:443/pdfs/VipMasterIC/IC/PANA/PANA-S-A0009590914/PANA-S-A0009590914-1.pdf?src-supplier=IHS+Markit; ComponentLink2URL: https://datasheet.ciiva.com/11791/0900766b80eaa63b-11791104.pdf?src-supplier=Rs; ComponentLink2Description: https://datasheet.ciiva.com/11791/0900766b80eaa63b-11791104.pdf?src-supplier=Rs; ComponentLink3URL: https://datasheet.ciiva.com/43470/1719409-43470574.pdf?src-supplier=Farnell; ComponentLink3Description: https://datasheet.ciiva.com/43470/1719409-43470574.pdf?src-supplier=Farnell; ComponentLink4URL: https://datasheet.ciiva.com/46378/1719409-46378152.pdf?src-supplier=Element14; ComponentLink4Description: https://datasheet.ciiva.com/46378/1719409-46378152.pdf?src-supplier=Element14; ComponentLink5URL: https://datasheet.ciiva.com/2993/abd0000ce13-2993601.pdf?src-supplier=Avnet; ComponentLink5Description: https://datasheet.ciiva.com/2993/abd0000ce13-2993601.pdf?src-supplier=Avnet; ComponentLink6URL: https://datasheet.ciiva.com/2993/abd0000ce13-2993600.pdf?src-supplier=Avnet; ComponentLink6Description: https://datasheet.ciiva.com/2993/abd0000ce13-2993600.pdf?src-supplier=Avnet; ComponentLink7URL: https://datasheet.ciiva.com/31414/1719409-31414057.pdf?src-supplier=Farnell; ComponentLink7Description: https://datasheet.ciiva.com/31414/1719409-31414057.pdf?src-supplier=Farnell; ComponentLink8URL: https://datasheet.ciiva.com/46371/1719409-46371852.pdf?src-supplier=Element14; ComponentLink8Description: https://datasheet.ciiva.com/46371/1719409-46371852.pdf?src-supplier=Element14; ComponentLink9URL: https://datasheet.ciiva.com/14596/70067901-14596793.pdf?src-supplier=Allied+Electronics; ComponentLink9Description: https://datasheet.ciiva.com/14596/70067901-14596793.pdf?src-supplier=Allied+Electronics; ComponentLink10URL: https://datasheet.ciiva.com/16395/abd0000ce13-16395851.pdf?src-supplier=Future+Electronics; ComponentLink10Description: https://datasheet.ciiva.com/16395/abd0000ce13-16395851.pdf?src-supplier=Future+Electronics; ComponentLink11URL: https://datasheet.ciiva.com/30205/21abd0000ce13-30205002.pdf?src-supplier=Onlinecomponents.com; ComponentLink11Description: https://datasheet.ciiva.com/30205/21abd0000ce13-30205002.pdf?src-supplier=Onlinecomponents.com; ComponentLink12URL: https://datasheet.ciiva.com/15198/getdatasheetpartid-363235-15198203.pdf?src-supplier=Verical; ComponentLink12Description: https://datasheet.ciiva.com/15198/getdatasheetpartid-363235-15198203.pdf?src-supplier=Verical
footprint CAP_0603
pins: 1, 2

## CAP-TANT_220uF_20%_6.3V_1411
designator C?, comment 220uF
Tantalum Capacitor, Polarized, Tantalum (dry/solid), 6.3V, 20% +Tol, 20% -Tol, 220uF, Surface Mount, 1210; Manufacturer: Kyocera AVX; Manufacturer Part Number: F930J227MBA; ESR (Equivalent Series Resistance): 1.2R; Leakage Current: 13.9uA; Tan Delta: 0.3; Supplier: Avnet; Supplier Part Number: 82AC9103; RoHS: Yes; Category: Tantalum Capacitors; Stock: 663; Pricing: 1=0.77, 10=0.601, 30=0.561, 50=0.522, 100=0.486 (USD); Mounting Technology: Surface Mount; Pins: 2; Dielectric Material: Tantalum; Package Shape: Rectangular; Case/Package: 1411; Min Operating Temperature: -55°C; Max Operating Temperature: 125°C; Polarity: Polarized; Value: 220uF; Capacitor Type: Tantalum; Tolerance  (fill in as +-): 20%; Package Style: SMTMeter; Packaging: Tape and Reel; Tolerance (fill in as +-): 20%; Rated DC Voltage (URdc): 6.3V; Termination: Wraparound; Length: 3.5mm; Width: 2.8mm; Height: 1.9mm; RoHS Compliant: Yes; Reach SVHC Compliant: Yes; ComponentLink1URL: https://datasheet.ciiva.com:443/pdfs/VipMasterIC/IC/AVXC/AVXC-S-A0008508050/AVXC-S-A0008508050-1.pdf?src-supplier=IHS+Markit; ComponentLink1Description: https://datasheet.ciiva.com:443/pdfs/VipMasterIC/IC/AVXC/AVXC-S-A0008508050/AVXC-S-A0008508050-1.pdf?src-supplier=IHS+Markit; ComponentLink2URL: http://www.farnell.com/datasheets/2602419.pdf?src-supplier=Farnell; ComponentLink2Description: http://www.farnell.com/datasheets/2602419.pdf?src-supplier=Farnell; ComponentLink3URL: https://datasheet.octopart.com/F930J227MBA-AVX-datasheet-103254539.pdf?src-supplier=Newark; ComponentLink3Description: https://datasheet.octopart.com/F930J227MBA-AVX-datasheet-103254539.pdf?src-supplier=Newark; ComponentLink4URL: http://www.farnell.com/datasheets/2602419.pdf?src-supplier=Newark; ComponentLink4Description: http://www.farnell.com/datasheets/2602419.pdf?src-supplier=Newark; ComponentLink5URL: http://datasheets.avx.com/F93.pdf?src-supplier=Digikey; ComponentLink5Description: http://datasheets.avx.com/F93.pdf?src-supplier=Digikey; ComponentLink6URL: http://datasheet.octopart.com/F930J227MBA-AVX-datasheet-50868108.pdf?src-supplier=Avnet; ComponentLink6Description: http://datasheet.octopart.com/F930J227MBA-AVX-datasheet-50868108.pdf?src-supplier=Avnet; ComponentLink7URL: http://datasheet.octopart.com/F930J227MBA-AVX-datasheet-50868108.pdf?src-supplier=Farnell; ComponentLink7Description: http://datasheet.octopart.com/F930J227MBA-AVX-datasheet-50868108.pdf?src-supplier=Farnell; ComponentLink8URL: http://datasheet.octopart.com/F930J227MBA-AVX-datasheet-50868108.pdf?src-supplier=Arrow+Electronics; ComponentLink8Description: http://datasheet.octopart.com/F930J227MBA-AVX-datasheet-50868108.pdf?src-supplier=Arrow+Electronics; ComponentLink9URL: http://datasheet.octopart.com/F930J227MBA-AVX-datasheet-50868108.pdf?src-supplier=Mouser; ComponentLink9Description: http://datasheet.octopart.com/F930J227MBA-AVX-datasheet-50868108.pdf?src-supplier=Mouser; ComponentLink10URL: https://datasheet.octopart.com/F930J227MBA-AVX-datasheet-50868108.pdf?src-supplier=Future+Electronics; ComponentLink10Description: https://datasheet.octopart.com/F930J227MBA-AVX-datasheet-50868108.pdf?src-supplier=Future+Electronics; ComponentLink11URL: http://datasheet.octopart.com/F930J227MBA-AVX-datasheet-50868108.pdf?src-supplier=TTI; ComponentLink11Description: http://datasheet.octopart.com/F930J227MBA-AVX-datasheet-50868108.pdf?src-supplier=TTI
footprint CAP_1411 (3528 Metric)
pins: 1, 2

## CAP-X_0.1uF_10%_560VDC_TH_PolyProp
designator CX?, comment 0.1uF
Film Capacitor, Polypropylene, 560V, 10% +Tol, 10% -Tol, 0.1uF, Through Hole Mount; Manufacturer: Kemet Arcotronics; Manufacturer Part Number: R46KF310050P0K; Value: 100nF; Rated AC Voltage (URac): 275V; Reference Standard: IEC60384-14; Supplier: Farnell; Supplier Part Number: 1679300; RoHS: Yes; Category: Film Capacitors; Stock: 5209; Pricing: 10=0.647, 50=0.461, 100=0.446, 500=0.338, 1200=0.311, 2400=0.283 (EUR); Mounting Technology: Through Hole; Pins: 2; Dielectric Material: Polypropylene; Package Shape: Rectangular; Case/Package: 5124; Terminal Finish: Tin; Min Operating Temperature: -40°C; Max Operating Temperature: 110°C; JESD-609 Code: e3; Capacitor Type: FILM; Tolerance  (fill in as +-): 10%; Package Style: RadialMeter; Packaging: Bulk; Tolerance (fill in as +-): 10%; Rated DC Voltage (URdc): 560V; Termination: Wire; Length: 13mm; Width: 6mm; Height: 12mm; Terminal Pitch: 10mm; Reach SVHC Compliant: Yes; RoHS Compliant: Yes; ComponentLink1URL: https://datasheet.ciiva.com:443/pdfs/VipMasterIC/IC/KEME/KEME-S-A0009362121/KEME-S-A0009362121-1.pdf?src-supplier=IHS+Markit; ComponentLink1Description: https://datasheet.ciiva.com:443/pdfs/VipMasterIC/IC/KEME/KEME-S-A0009362121/KEME-S-A0009362121-1.pdf?src-supplier=IHS+Markit; ComponentLink2URL: https://datasheet.ciiva.com/8068/87388-8068680.pdf?src-supplier=Element14; ComponentLink2Description: https://datasheet.ciiva.com/8068/87388-8068680.pdf?src-supplier=Element14
footprint CAP-X 10mm Lead 13mm*6mm
pins: 1, 2

## CAP_0.7pF_7.14%_50V_C0G_0402
designator C?, comment 0.7pF
Ceramic Capacitor, Multilayer, Ceramic, 50V, 7.14% +Tol, 7.14% -Tol, C0G, 30ppm/Cel TC, 0.0000007uF, Surface Mount, 0402; Manufacturer: Murata; Manufacturer Part Number: GJM1555C1HR70WB01D; Multilayer: Yes; Supplier: Mouser; Supplier Part Number: 81-GJM1555C1HR70WB1D; RoHS: Yes; Category: Ceramic Capacitors; Stock: 27116; Pricing: 1=0.16, 10=0.062, 50=0.062, 100=0.04, 1000=0.035, 10000=0.022 (USD); Mounting Technology: Surface Mount; Pins: 2; Dielectric Material: Ceramic; Package Shape: Rectangular; Case/Package: 0402; Terminal Finish: Nickel; Min Operating Temperature: -55°C; Max Operating Temperature: 125°C; JESD-609 Code: e3; Value: 0.7pF; Capacitor Type: Ceramic; Tolerance  (fill in as +-): 7.14%; Package Style: SMTMeter; Packaging: Tape and Reel; Tolerance (fill in as +-): 7.14%; Rated DC Voltage (URdc): 50V; Temperature Characteristics Code: C0G; Termination: Wraparound; Length: 1mm; Width: 0.5mm; Height: 0.5mm; Reach SVHC Compliant: Yes; RoHS Compliant: Yes; ComponentLink1URL: https://datasheet.ciiva.com:443/pdfs/VipMasterIC/IC/MURE/MURE-S-A0004378008/MURE-S-A0004383522-1.pdf?src-supplier=IHS+Markit; ComponentLink1Description: https://datasheet.ciiva.com:443/pdfs/VipMasterIC/IC/MURE/MURE-S-A0004378008/MURE-S-A0004383522-1.pdf?src-supplier=IHS+Markit; ComponentLink2URL: https://datasheet.ciiva.com/170/product-170099.pdf?src-supplier=Digikey; ComponentLink2Description: https://datasheet.ciiva.com/170/product-170099.pdf?src-supplier=Digikey; ComponentLink3URL: https://datasheet.ciiva.com/2989/product-2989256.pdf?src-supplier=Avnet; ComponentLink3Description: https://datasheet.ciiva.com/2989/product-2989256.pdf?src-supplier=Avnet
footprint CAP_0402
pins: 1, 2

## CAP_0.8pF_6.25%_50V_C0G_0402
designator C?, comment 0.8pF
Ceramic Capacitor, Multilayer, Ceramic, 50V, 6.25% +Tol, 6.25% -Tol, C0G, 30ppm/Cel TC, 0.0000008uF, Surface Mount, 0402; Manufacturer: Murata; Manufacturer Part Number: GJM1555C1HR80WB01D; Multilayer: Yes; Supplier: Mouser; Supplier Part Number: 81-GJM1555C1HR80WB1D; RoHS: Yes; Category: Ceramic Capacitors; Stock: 49492; Pricing: 1=0.17, 10=0.066, 50=0.066, 100=0.043, 1000=0.038, 10000=0.022 (USD); Mounting Technology: Surface Mount; Pins: 2; Dielectric Material: Ceramic; Package Shape: Rectangular; Case/Package: 0402; Terminal Finish: Nickel; Min Operating Temperature: -55°C; Max Operating Temperature: 125°C; JESD-609 Code: e3; Value: 0.8pF; Capacitor Type: Ceramic; Tolerance  (fill in as +-): 6.25%; Package Style: SMTMeter; Packaging: Tape and Reel; Tolerance (fill in as +-): 6.25%; Rated DC Voltage (URdc): 50V; Temperature Characteristics Code: C0G; Termination: Wraparound; Length: 1mm; Width: 0.5mm; Height: 0.5mm; Reach SVHC Compliant: Yes; RoHS Compliant: Yes; ComponentLink1URL: https://datasheet.ciiva.com:443/pdfs/VipMasterIC/IC/MURE/MURE-S-A0004378008/MURE-S-A0004383390-1.pdf?src-supplier=IHS+Markit; ComponentLink1Description: https://datasheet.ciiva.com:443/pdfs/VipMasterIC/IC/MURE/MURE-S-A0004378008/MURE-S-A0004383390-1.pdf?src-supplier=IHS+Markit; ComponentLink2URL: http://www.farnell.com/datasheets/2867782.pdf?src-supplier=Farnell; ComponentLink2Description: http://www.farnell.com/datasheets/2867782.pdf?src-supplier=Farnell; ComponentLink3URL: http://www.mouser.com/ds/2/281/c02e-2905.pdf?src-supplier=Mouser; ComponentLink3Description: http://www.mouser.com/ds/2/281/c02e-2905.pdf?src-supplier=Mouser; ComponentLink4URL: http://www.farnell.com/datasheets/2356167.pdf?src-supplier=Element14; ComponentLink4Description: http://www.farnell.com/datasheets/2356167.pdf?src-supplier=Element14; ComponentLink5URL: https://datasheet.octopart.com/GJM1555C1HR80WB01D-Murata-datasheet-96711517.pdf?src-supplier=Element14; ComponentLink5Description: https://datasheet.octopart.com/GJM1555C1HR80WB01D-Murata-datasheet-96711517.pdf?src-supplier=Element14; ComponentLink6URL: http://search.murata.co.jp/Ceramy/image/img/A01X/G101/ENG/GJM1555C1HR80WB01-01.pdf?src-supplier=Digikey; ComponentLink6Description: http://search.murata.co.jp/Ceramy/image/img/A01X/G101/ENG/GJM1555C1HR80WB01-01.pdf?src-supplier=Digikey; ComponentLink7URL: https://datasheet.octopart.com/GJM1555C1HR80WB01D-Murata-datasheet-82944391.pdf?src-supplier=Future+Electronics; ComponentLink7Description: https://datasheet.octopart.com/GJM1555C1HR80WB01D-Murata-datasheet-82944391.pdf?src-supplier=Future+Electronics; ComponentLink8URL: https://datasheet.octopart.com/GJM1555C1HR80WB01D-Murata-datasheet-165579666.pdf?src-supplier=TME; ComponentLink8Description: https://datasheet.octopart.com/GJM1555C1HR80WB01D-Murata-datasheet-165579666.pdf?src-supplier=TME
footprint CAP_0402
pins: 1, 2